# Altium schematic symbol library sd12c_01ftg.SchLib: 1 symbol
Pins are listed as number, name and electrical type; pins without a type are passive.

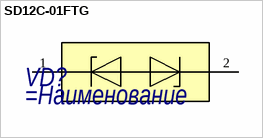
[diagram p0: symbol SD12C-01FTG]

## SD12C-01FTG
designator VD?
=Описание
pins: 1, 2